# Altium schematic symbol library Phoenix.SchLib: 2 symbols
Pins are listed as number, name and electrical type; pins without a type are passive.

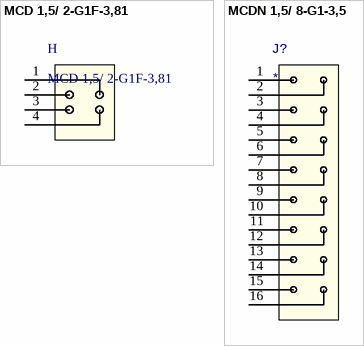
[diagram p0: symbols MCD 1,5/ 2-G1F-3,81 to MCDN 1,5/ 8-G1-3,5]

## MCD 1,5/ 2-G1F-3,81
designator H
Phoenix Socket, 4-Lead; Manufacturer 1: Phoenix Contact; Manufacturer Part Number 1: *; Value: MCD 1,5/ 2-G1F-3,81; Supplier 1: Farnell
footprint MCD 1,5/ 2-G1F-3,81 (THT Socket, Double Row, Right Angled, 2x2-Lead, Pitch 3.81)
pins: 1, 2, 3, 4

## MCDN 1,5/ 8-G1-3,5
designator J?
Phoenix Socket, 8x2-Lead; Manufacturer 1: Phoenix Contact; Manufacturer Part Number 1: 1953583; Supplier 1: Farnell
footprint MCDN 1,5/8-G1-3.5 P26THR (THT Socket, Double Row, Right Angled, 2x8-Lead, Pitch 3.5)
pins: 1, 2, 3, 4, 5, 6, 7, 8, 9, 10, 11, 12, 13, 14, 15, 16